# Altium schematic symbol library B3U-1000.SchLib: 1 symbol
Pins are listed as number, name and electrical type; pins without a type are passive.

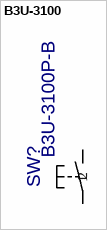
[diagram p0: symbol B3U-3100]

## B3U-3100
designator SW?, comment B3U-3100P-B
SWITCH TACTILE SPST-NO 0.05A 12V; Digi-Key Part Number: SW1103CT-ND; Manufacturer Part Number: B3U-3100P-B; Circuit: SPST-NO
footprint B3U
pins: 1, 2